# EAGLE library part DUAL-USB (library jt-pc)
Dual USB connector
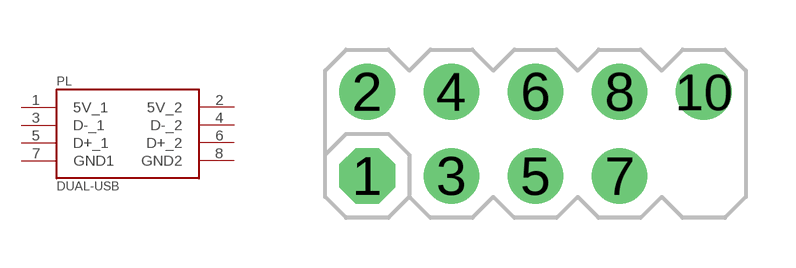
[diagram p1: symbol with the pads of USB-DUAL; footprint USB-DUAL]

Designator prefix PL

## DUAL-USBMB  [USB-DUAL]
1  5V_1  pwr
2  5V_2  pwr
3  D-_1
4  D-_2
5  D+_1
6  D+_2
7  GND1  pwr
8  GND2  pwr

## Footprint USB-DUAL (pad centres in mm)
Dual USB connector (motherboard)
drill 1 pad 1.676 octagon: 1 0,-2.54
drill 1 pad 1.676 round: 2 0,0; 3 2.54,-2.54; 4 2.54,0; 5 5.08,-2.54; 6 5.08,0; 7 7.62,-2.54; 8 7.62,0; 10 10.16,0